# EAGLE library part 615016240521 (library WR-MJ)
WR-MJ Cat 3 Modular Jacks – THT Characteristics Shieldingless and Shielded with EMI-Spring option Optional LEDs in various sequences Vertical and Horizontal orientation Stacked and assembled configurations Tray Packaging Properties PoE++ Compatible up to 100W (IEEE 802.3bt) UL and cULus-Certified UL94-V0 insulator material Ethernet Category 3 – Category 5 under conditions Applications Networks Internet of Things mart Buildings <https://www.we-online.com/components/media/o863419v209%20multi-WR-MJTH-615002138421.jpg> Details see: www.we-online.com/en/components/products/WR_MJ_MODULAR_JACKS_THT <www.we-online.com/catalog/WR_MJ_MODULAR_JACKS_THT/?utm_source=eagle_model&utm_medium=description_link&utm_campaign=eisos_eagle> Updated by Yingchun Shan 2020-01-06 2020(C) Würth Elektronik
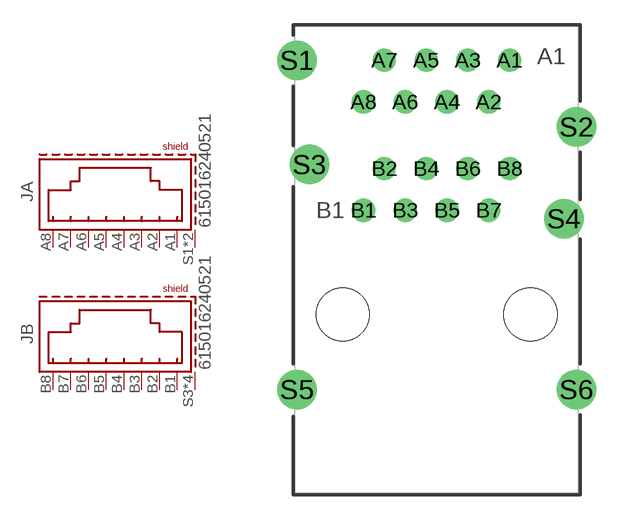
[diagram p58: symbol with the pads of 615016240521; footprint 615016240521]

Designator prefix J; gates A=8P8C_S B=8P8C_S

## 615016240521 (APPLICATION-SYSTEM: CAT 3; DATASHEET-URL: https://www.we-online.com/redexpert/spec/615016240521?ae; EMI: Yes; LED: /; MOUNT: THT; PART-NUMBER: 615016240521; SIZE: Horizontal; TAB: Up & Down; VALUE: 615016240521; XPXC: 8P8C)  [615016240521]
A1  A:1  pas
A2  A:2  pas
A3  A:3  pas
A4  A:4  pas
A5  A:5  pas
A6  A:6  pas
A7  A:7  pas
A8  A:8  pas
B1  B:1  pas
B2  B:2  pas
B3  B:3  pas
B4  B:4  pas
B5  B:5  pas
B6  B:6  pas
B7  B:7  pas
B8  B:8  pas
S1  A:SHIELD  pas
S2  A:SHIELD  pas
S3  B:SHIELD  pas
S4  B:SHIELD  pas
S5  B:SHIELD  pas
S6  B:SHIELD  pas

## Footprint 615016240521 (pad centres in mm)
WR-MJ Horizontal Shielded Dual Stacked Port with EMI Panel Finger 8P8C Modular Jack Tab Up & Down, 16 Pins
drill 0.9: A1 4.445,12.155; A2 3.175,9.615; A3 1.905,12.155; A4 0.635,9.615; A5 -0.635,12.155; A6 -1.905,9.615; A7 -3.175,12.155; A8 -4.445,9.615; B1 -4.445,3.015; B2 -3.175,5.555; B3 -1.905,3.015; B4 -0.635,5.555; B5 0.635,3.015; B6 1.905,5.555; B7 3.175,3.015; B8 4.445,5.555
drill 1.6: S1 -8.505,12.155; S2 8.505,8.095; S3 -7.745,5.805; S4 7.745,2.505; S5 -8.505,-7.905; S6 8.505,-7.905
hole 3.25 at -5.715,-3.335
hole 3.25 at 5.715,-3.335